# Altium footprint library LED_0603.PcbLib: 1 footprints
Each footprint in its own frame and in the unit in brackets; x right, y up, seen from the top. Pads: shape width x height; smd on the part's side, far side on the other; paste and mask are expansions set on the pad; w line width, h text height; cw(c..) or ccw(c..) is an arc to the next point about the centre after c.
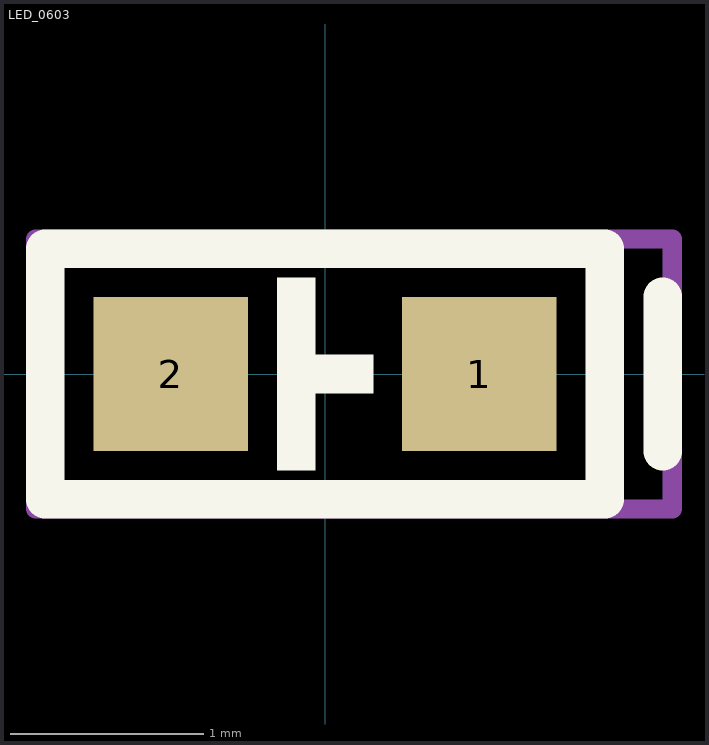
[diagram p0: the footprint, top view; thin cyan lines are the x and y axes]

## LED_0603 [mm]
pads (2):
  rect 0.8x0.8 smd: 1(0.8,0) 2(-0.8,0)
Top Overlay:
  rectangle: -0.25,-0.1 0.25,0.1
  rectangle: -0.25,-0.5 -0.05,0.5
  lines w0.2: 1.75,-0.4 1.75,0.4 ; -1.45,-0.65 1.45,-0.65 1.45,0.65 -1.45,0.65 -1.45,-0.65
Top Courtyard:
  lines w0.1: -1.5,-0.7 -1.5,0.7 1.8,0.7 1.8,-0.7 -1.5,-0.7
3D body "LED 0603 Base RED.STEP": height 0.28, standoff 0, extent -0.8,-0.4 0.8,0.4
3D body "LED 0603 Lens RED.STEP": height 0.53, standoff 0.18, extent -0.55,-0.4 0.55,0.4